# Altium footprint library LTC5576IUFPBF.PcbLib: 3 footprints
Each footprint in its own frame and in the unit in brackets; x right, y up, seen from the top. Pads: shape width x height; smd on the part's side, far side on the other; paste and mask are expansions set on the pad; w line width, h text height; cw(c..) or ccw(c..) is an arc to the next point about the centre after c.
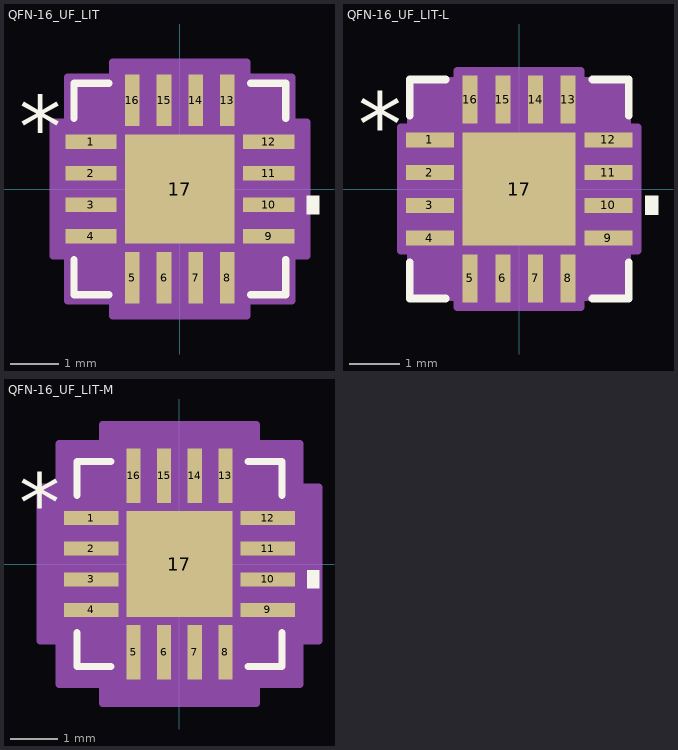
[diagram p0: the footprints below, top view; thin cyan lines are the x and y axes]

## QFN-16_UF_LIT [mm]
pads (17):
  rect 1.055x0.299 smd paste+0 mask+0: 1(-1.827,0.975) 2(-1.827,0.325) 3(-1.827,-0.325) 4(-1.827,-0.975) 9(1.827,-0.975) 10(1.827,-0.325) 11(1.827,0.325) 12(1.827,0.975)
  rect 0.299x1.055 smd paste+0 mask+0: 5(-0.975,-1.827) 6(-0.325,-1.827) 7(0.325,-1.827) 8(0.975,-1.827) 13(0.975,1.827) 14(0.325,1.827) 15(-0.325,1.827) 16(-0.975,1.827)
  rect 2.25x2.25 smd paste+0 mask+0: 17(0,0)
Top Overlay:
  region: 2.609,-0.135 2.863,-0.135 2.863,-0.516 2.609,-0.516
  lines w0.152: -2.177,-1.457 -2.177,-2.177 -1.457,-2.177 ; -2.177,1.457 -2.177,2.177 -1.457,2.177 ; 1.457,-2.177 2.177,-2.177 2.177,-1.457 ; 1.457,2.177 2.177,2.177 2.177,1.457
  text "*" at -3.307,0.665 h1.27
  text ".Designator" at -3.492,-0.635 h1.27
Mechanical 13:
  lines w0.025: -2.05,0.78 -0.78,2.05 ; -2.05,-2.05 2.05,-2.05 ; -2.05,-2.05 -2.05,2.05 ; -2.05,-2.05 -2.05,-2.05 ; -2.05,-1.15 -2.05,-0.8 ; -2.05,-1.15 -2.05,-0.8 ; -2.05,-1.15 -2.05,-1.15 ; -2.05,-0.8 -2.05,-0.8 ; -2.05,-0.5 -2.05,-0.15 ; -2.05,-0.5 -2.05,-0.15 ; -2.05,-0.5 -2.05,-0.5 ; -2.05,-0.15 -2.05,-0.15 ; -2.05,0.15 -2.05,0.5 ; -2.05,0.15 -2.05,0.5 ; -2.05,0.15 -2.05,0.15 ; -2.05,0.5 -2.05,0.5 ; -2.05,0.8 -2.05,1.15 ; -2.05,0.8 -2.05,1.15 ; -2.05,0.8 -2.05,0.8 ; -2.05,1.15 -2.05,1.15 ; -2.05,2.05 2.05,2.05 ; -2.05,2.05 -2.05,2.05 ; -1.15,-2.05 -0.8,-2.05 ; -1.15,-2.05 -1.15,-2.05 ; -1.15,-2.05 -0.8,-2.05 ; -1.15,2.05 -0.8,2.05 ; -1.15,2.05 -0.8,2.05 ; -1.15,2.05 -1.15,2.05 ; -0.8,-2.05 -0.8,-2.05 ; -0.8,2.05 -0.8,2.05 ; -0.5,-2.05 -0.15,-2.05 ; -0.5,-2.05 -0.5,-2.05 ; -0.5,-2.05 -0.15,-2.05 ; -0.5,2.05 -0.15,2.05 ; -0.5,2.05 -0.15,2.05 ; -0.5,2.05 -0.5,2.05 ; -0.15,-2.05 -0.15,-2.05 ; -0.15,2.05 -0.15,2.05 ; 0.15,-2.05 0.5,-2.05 ; 0.15,-2.05 0.15,-2.05 ; 0.15,-2.05 0.5,-2.05 ; 0.15,2.05 0.5,2.05 ; 0.15,2.05 0.5,2.05 ; 0.15,2.05 0.15,2.05 ; 0.5,-2.05 0.5,-2.05 ; 0.5,2.05 0.5,2.05 ; 0.8,-2.05 1.15,-2.05 ; 0.8,-2.05 0.8,-2.05 ; 0.8,-2.05 1.15,-2.05 ; 0.8,2.05 1.15,2.05 ; 0.8,2.05 1.15,2.05 ; 0.8,2.05 0.8,2.05 ; 1.15,-2.05 1.15,-2.05 ; 1.15,2.05 1.15,2.05 ; 2.05,-2.05 2.05,-2.05 ; 2.05,-2.05 2.05,2.05 ; 2.05,-1.15 2.05,-0.8 ; 2.05,-1.15 2.05,-1.15 ; 2.05,-1.15 2.05,-0.8 ; 2.05,-0.8 2.05,-0.8 ; 2.05,-0.5 2.05,-0.15 ; 2.05,-0.5 2.05,-0.5 ; 2.05,-0.5 2.05,-0.15 ; 2.05,-0.15 2.05,-0.15 ; 2.05,0.15 2.05,0.5 ; 2.05,0.15 2.05,0.15 ; 2.05,0.15 2.05,0.5 ; 2.05,0.5 2.05,0.5 ; 2.05,0.8 2.05,1.15 ; 2.05,0.8 2.05,0.8 ; 2.05,0.8 2.05,1.15 ; 2.05,1.15 2.05,1.15 ; 2.05,2.05 2.05,2.05
  text ".Designator" at -3.492,-0.635 h1.27
  text "*" at -1.617,0.665 h1.27
Mechanical 15:
  region: -1.379,-2.304 -2.304,-2.304 -2.304,-1.379 -2.609,-1.379 -2.609,1.379 -2.304,1.379 -2.304,2.304 -1.379,2.304 -1.379,2.609 1.379,2.609 1.379,2.304 2.304,2.304 2.304,1.379 2.609,1.379 2.609,-1.379 2.304,-1.379 2.304,-2.304 1.379,-2.304 1.379,-2.609 -1.379,-2.609
  lines w0.152: -2.609,-1.379 -2.304,-1.379 -2.304,-2.304 -1.379,-2.304 -1.379,-2.609 1.379,-2.609 1.379,-2.304 2.304,-2.304 2.304,-1.379 2.609,-1.379 2.609,1.379 2.304,1.379 2.304,2.304 1.379,2.304 1.379,2.609 -1.379,2.609 -1.379,2.304 -2.304,2.304 -2.304,1.379 -2.609,1.379 -2.609,-1.379
3D body "QFN-16_UF_LIT.step": height 0.8, standoff 0, extent -2.05,-2.05 2.05,2.05

## QFN-16_UF_LIT-L [mm]
pads (17):
  rect 0.953x0.299 smd paste+0 mask+0: 1(-1.777,0.975) 2(-1.777,0.325) 3(-1.777,-0.325) 4(-1.777,-0.975) 9(1.777,-0.975) 10(1.777,-0.325) 11(1.777,0.325) 12(1.777,0.975)
  rect 0.299x0.953 smd paste+0 mask+0: 5(-0.975,-1.777) 6(-0.325,-1.777) 7(0.325,-1.777) 8(0.975,-1.777) 13(0.975,1.777) 14(0.325,1.777) 15(-0.325,1.777) 16(-0.975,1.777)
  rect 2.25x2.25 smd paste+0 mask+0: 17(0,0)
Top Overlay:
  region: 2.507,-0.135 2.761,-0.135 2.761,-0.516 2.507,-0.516
  lines w0.152: -2.177,-1.457 -2.177,-2.177 -1.457,-2.177 ; -2.177,1.457 -2.177,2.177 -1.457,2.177 ; 1.457,-2.177 2.177,-2.177 2.177,-1.457 ; 1.457,2.177 2.177,2.177 2.177,1.457
  text "*" at -3.206,0.665 h1.27
  text ".Designator" at -3.492,-0.635 h1.27
Mechanical 13:
  lines w0.025: -2.05,0.78 -0.78,2.05 ; -2.05,-2.05 2.05,-2.05 ; -2.05,-2.05 -2.05,2.05 ; -2.05,-2.05 -2.05,-2.05 ; -2.05,-1.15 -2.05,-0.8 ; -2.05,-1.15 -2.05,-0.8 ; -2.05,-1.15 -2.05,-1.15 ; -2.05,-0.8 -2.05,-0.8 ; -2.05,-0.5 -2.05,-0.15 ; -2.05,-0.5 -2.05,-0.15 ; -2.05,-0.5 -2.05,-0.5 ; -2.05,-0.15 -2.05,-0.15 ; -2.05,0.15 -2.05,0.5 ; -2.05,0.15 -2.05,0.5 ; -2.05,0.15 -2.05,0.15 ; -2.05,0.5 -2.05,0.5 ; -2.05,0.8 -2.05,1.15 ; -2.05,0.8 -2.05,1.15 ; -2.05,0.8 -2.05,0.8 ; -2.05,1.15 -2.05,1.15 ; -2.05,2.05 2.05,2.05 ; -2.05,2.05 -2.05,2.05 ; -1.15,-2.05 -0.8,-2.05 ; -1.15,-2.05 -1.15,-2.05 ; -1.15,-2.05 -0.8,-2.05 ; -1.15,2.05 -0.8,2.05 ; -1.15,2.05 -0.8,2.05 ; -1.15,2.05 -1.15,2.05 ; -0.8,-2.05 -0.8,-2.05 ; -0.8,2.05 -0.8,2.05 ; -0.5,-2.05 -0.15,-2.05 ; -0.5,-2.05 -0.5,-2.05 ; -0.5,-2.05 -0.15,-2.05 ; -0.5,2.05 -0.15,2.05 ; -0.5,2.05 -0.15,2.05 ; -0.5,2.05 -0.5,2.05 ; -0.15,-2.05 -0.15,-2.05 ; -0.15,2.05 -0.15,2.05 ; 0.15,-2.05 0.5,-2.05 ; 0.15,-2.05 0.15,-2.05 ; 0.15,-2.05 0.5,-2.05 ; 0.15,2.05 0.5,2.05 ; 0.15,2.05 0.5,2.05 ; 0.15,2.05 0.15,2.05 ; 0.5,-2.05 0.5,-2.05 ; 0.5,2.05 0.5,2.05 ; 0.8,-2.05 1.15,-2.05 ; 0.8,-2.05 0.8,-2.05 ; 0.8,-2.05 1.15,-2.05 ; 0.8,2.05 1.15,2.05 ; 0.8,2.05 1.15,2.05 ; 0.8,2.05 0.8,2.05 ; 1.15,-2.05 1.15,-2.05 ; 1.15,2.05 1.15,2.05 ; 2.05,-2.05 2.05,-2.05 ; 2.05,-2.05 2.05,2.05 ; 2.05,-1.15 2.05,-0.8 ; 2.05,-1.15 2.05,-1.15 ; 2.05,-1.15 2.05,-0.8 ; 2.05,-0.8 2.05,-0.8 ; 2.05,-0.5 2.05,-0.15 ; 2.05,-0.5 2.05,-0.5 ; 2.05,-0.5 2.05,-0.15 ; 2.05,-0.15 2.05,-0.15 ; 2.05,0.15 2.05,0.5 ; 2.05,0.15 2.05,0.15 ; 2.05,0.15 2.05,0.5 ; 2.05,0.5 2.05,0.5 ; 2.05,0.8 2.05,1.15 ; 2.05,0.8 2.05,0.8 ; 2.05,0.8 2.05,1.15 ; 2.05,1.15 2.05,1.15 ; 2.05,2.05 2.05,2.05
  text ".Designator" at -3.492,-0.635 h1.27
  text "*" at -1.617,0.665 h1.27
Mechanical 15:
  region: -1.226,-2.152 -2.152,-2.152 -2.152,-1.226 -2.355,-1.226 -2.355,1.226 -2.152,1.226 -2.152,2.152 -1.226,2.152 -1.226,2.355 1.226,2.355 1.226,2.152 2.152,2.152 2.152,1.226 2.355,1.226 2.355,-1.226 2.152,-1.226 2.152,-2.152 1.226,-2.152 1.226,-2.355 -1.226,-2.355
  lines w0.152: -2.355,-1.226 -2.152,-1.226 -2.152,-2.152 -1.226,-2.152 -1.226,-2.355 1.226,-2.355 1.226,-2.152 2.152,-2.152 2.152,-1.226 2.355,-1.226 2.355,1.226 2.152,1.226 2.152,2.152 1.226,2.152 1.226,2.355 -1.226,2.355 -1.226,2.152 -2.152,2.152 -2.152,1.226 -2.355,1.226 -2.355,-1.226
3D body "QFN-16_UF_LIT.step": height 0.8, standoff 0, extent -2.05,-2.05 2.05,2.05

## QFN-16_UF_LIT-M [mm]
pads (17):
  rect 1.156x0.299 smd paste+0 mask+0: 1(-1.878,0.975) 2(-1.878,0.325) 3(-1.878,-0.325) 4(-1.878,-0.975) 9(1.878,-0.975) 10(1.878,-0.325) 11(1.878,0.325) 12(1.878,0.975)
  rect 0.299x1.156 smd paste+0 mask+0: 5(-0.975,-1.878) 6(-0.325,-1.878) 7(0.325,-1.878) 8(0.975,-1.878) 13(0.975,1.878) 14(0.325,1.878) 15(-0.325,1.878) 16(-0.975,1.878)
  rect 2.25x2.25 smd paste+0 mask+0: 17(0,0)
Top Overlay:
  region: 2.71,-0.135 2.964,-0.135 2.964,-0.516 2.71,-0.516
  lines w0.152: -2.177,-1.457 -2.177,-2.177 -1.457,-2.177 ; -2.177,1.457 -2.177,2.177 -1.457,2.177 ; 1.457,-2.177 2.177,-2.177 2.177,-1.457 ; 1.457,2.177 2.177,2.177 2.177,1.457
  text "*" at -3.409,0.665 h1.27
  text ".Designator" at -3.492,-0.635 h1.27
Mechanical 13:
  lines w0.025: -2.05,0.78 -0.78,2.05 ; -2.05,-2.05 2.05,-2.05 ; -2.05,-2.05 -2.05,2.05 ; -2.05,-2.05 -2.05,-2.05 ; -2.05,-1.15 -2.05,-0.8 ; -2.05,-1.15 -2.05,-0.8 ; -2.05,-1.15 -2.05,-1.15 ; -2.05,-0.8 -2.05,-0.8 ; -2.05,-0.5 -2.05,-0.15 ; -2.05,-0.5 -2.05,-0.15 ; -2.05,-0.5 -2.05,-0.5 ; -2.05,-0.15 -2.05,-0.15 ; -2.05,0.15 -2.05,0.5 ; -2.05,0.15 -2.05,0.5 ; -2.05,0.15 -2.05,0.15 ; -2.05,0.5 -2.05,0.5 ; -2.05,0.8 -2.05,1.15 ; -2.05,0.8 -2.05,1.15 ; -2.05,0.8 -2.05,0.8 ; -2.05,1.15 -2.05,1.15 ; -2.05,2.05 2.05,2.05 ; -2.05,2.05 -2.05,2.05 ; -1.15,-2.05 -0.8,-2.05 ; -1.15,-2.05 -1.15,-2.05 ; -1.15,-2.05 -0.8,-2.05 ; -1.15,2.05 -0.8,2.05 ; -1.15,2.05 -0.8,2.05 ; -1.15,2.05 -1.15,2.05 ; -0.8,-2.05 -0.8,-2.05 ; -0.8,2.05 -0.8,2.05 ; -0.5,-2.05 -0.15,-2.05 ; -0.5,-2.05 -0.5,-2.05 ; -0.5,-2.05 -0.15,-2.05 ; -0.5,2.05 -0.15,2.05 ; -0.5,2.05 -0.15,2.05 ; -0.5,2.05 -0.5,2.05 ; -0.15,-2.05 -0.15,-2.05 ; -0.15,2.05 -0.15,2.05 ; 0.15,-2.05 0.5,-2.05 ; 0.15,-2.05 0.15,-2.05 ; 0.15,-2.05 0.5,-2.05 ; 0.15,2.05 0.5,2.05 ; 0.15,2.05 0.5,2.05 ; 0.15,2.05 0.15,2.05 ; 0.5,-2.05 0.5,-2.05 ; 0.5,2.05 0.5,2.05 ; 0.8,-2.05 1.15,-2.05 ; 0.8,-2.05 0.8,-2.05 ; 0.8,-2.05 1.15,-2.05 ; 0.8,2.05 1.15,2.05 ; 0.8,2.05 1.15,2.05 ; 0.8,2.05 0.8,2.05 ; 1.15,-2.05 1.15,-2.05 ; 1.15,2.05 1.15,2.05 ; 2.05,-2.05 2.05,-2.05 ; 2.05,-2.05 2.05,2.05 ; 2.05,-1.15 2.05,-0.8 ; 2.05,-1.15 2.05,-1.15 ; 2.05,-1.15 2.05,-0.8 ; 2.05,-0.8 2.05,-0.8 ; 2.05,-0.5 2.05,-0.15 ; 2.05,-0.5 2.05,-0.5 ; 2.05,-0.5 2.05,-0.15 ; 2.05,-0.15 2.05,-0.15 ; 2.05,0.15 2.05,0.5 ; 2.05,0.15 2.05,0.15 ; 2.05,0.15 2.05,0.5 ; 2.05,0.5 2.05,0.5 ; 2.05,0.8 2.05,1.15 ; 2.05,0.8 2.05,0.8 ; 2.05,0.8 2.05,1.15 ; 2.05,1.15 2.05,1.15 ; 2.05,2.05 2.05,2.05
  text ".Designator" at -3.492,-0.635 h1.27
  text "*" at -1.617,0.665 h1.27
Mechanical 15:
  region: -1.633,-2.558 -2.558,-2.558 -2.558,-1.633 -2.964,-1.633 -2.964,1.633 -2.558,1.633 -2.558,2.558 -1.633,2.558 -1.633,2.964 1.633,2.964 1.633,2.558 2.558,2.558 2.558,1.633 2.964,1.633 2.964,-1.633 2.558,-1.633 2.558,-2.558 1.633,-2.558 1.633,-2.964 -1.633,-2.964
  lines w0.152: -2.964,-1.633 -2.558,-1.633 -2.558,-2.558 -1.633,-2.558 -1.633,-2.964 1.633,-2.964 1.633,-2.558 2.558,-2.558 2.558,-1.633 2.964,-1.633 2.964,1.633 2.558,1.633 2.558,2.558 1.633,2.558 1.633,2.964 -1.633,2.964 -1.633,2.558 -2.558,2.558 -2.558,1.633 -2.964,1.633 -2.964,-1.633
3D body "QFN-16_UF_LIT.step": height 0.8, standoff 0, extent -2.05,-2.05 2.05,2.05